# Altium footprint library Capacitor.PcbLib: 60 footprints (part 3 of 4)
Each footprint in its own frame and in the unit in brackets; x right, y up, seen from the top. Pads: shape width x height; smd on the part's side, far side on the other; paste and mask are expansions set on the pad; w line width, h text height; cw(c..) or ccw(c..) is an arc to the next point about the centre after c.
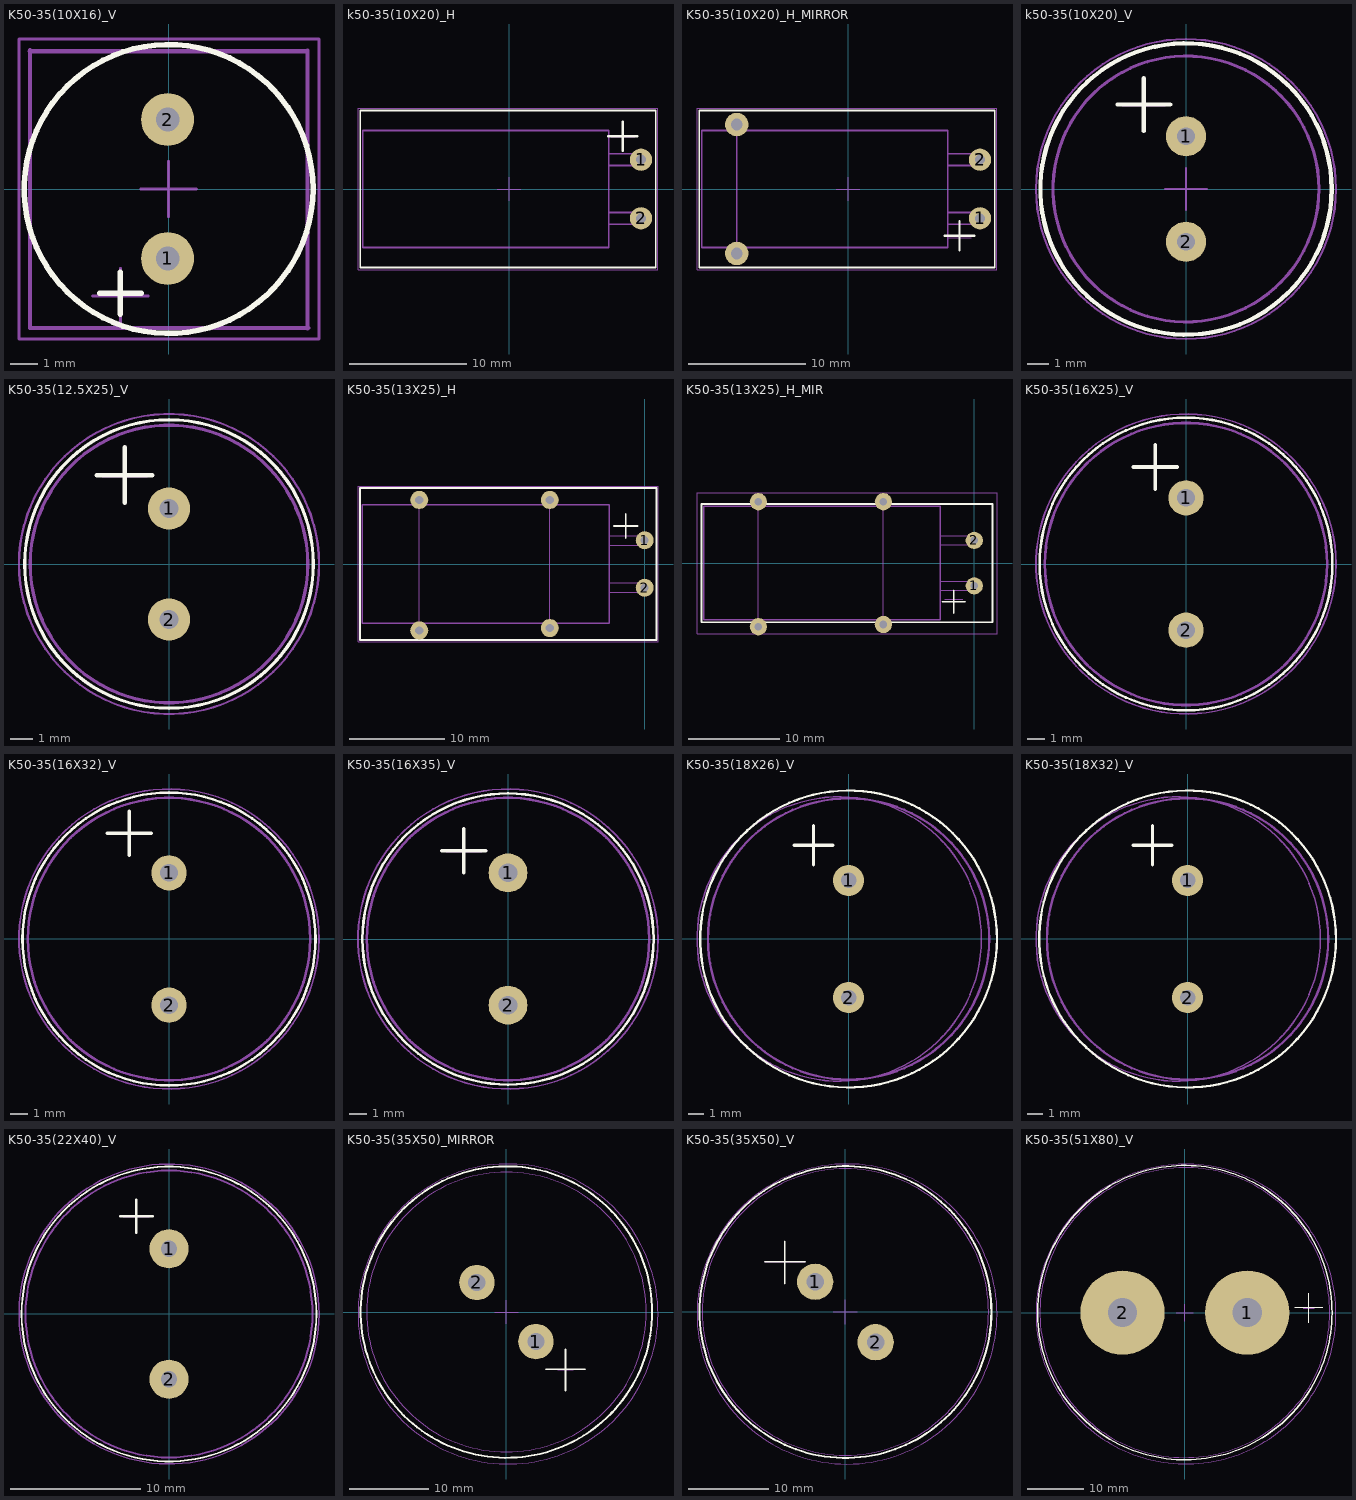
[diagram p2: the footprints below, top view; thin cyan lines are the x and y axes]

## K50-35(10X16)_V [mm]
pads (2):
  round 1.9 hole 0.85: 1(-0.037,-2.5)
  round 1.9 hole 0.85 mask+0.102: 2(-0.037,2.5)
Top Overlay:
  circle w0.2: c0,0 r5.2
  lines w0.2: -2.487,-3.75 -0.987,-3.75 ; -1.737,-4.5 -1.737,-3
Mechanical 7:
  lines w0.1: -2.737,-3.85 -0.737,-3.85 ; -1.737,-4.85 -1.737,-2.85
  lines w0.15: -5.012,4.961 5,4.961 ; -4.987,5 -4.987,-5 5.025,-5 ; -0.037,-3 -0.037,-2 ; -0.037,2 -0.037,3 ; 5,-5.025 5,4.987
Mechanical 9:
  text ".Designator" at 5.9,0.3 h3
Mechanical 10:
  text ".Comment" at 5.9,-1.8 h2
Mechanical 15:
  lines w0.1: -1,0 1,0 ; 0,-1 0,1 ; -5.387,-5.4 5.413,-5.4 5.413,5.4 -5.387,5.4 -5.387,-5.4
3D body "User Library-Cap electro 10x16x5_0mm.step": height 17.53, standoff -2.74, extent -5.025,-5.025 5.025,5.026

## k50-35(10X20)_H [mm]
pads (2):
  round 1.9 hole 0.85 mask+0.102: 1(11.25,2.5)
  round 1.9 hole 0.85: 2(11.25,-2.5)
Top Overlay:
  lines w0.15: -12.7,-6.7 -12.7,6.7 12.5,6.7 12.5,-6.7 -12.7,-6.7
  lines w0.2: 8.45,4.5 10.95,4.5 ; 9.7,3.25 9.7,5.75
Mechanical 7:
  lines w0.1: 8.7,4.45 10.7,4.45 ; 9.7,3.45 9.7,5.45
  lines w0.15: 8.5,-3 11.25,-3 11.25,-2 8.5,-2 ; 8.5,2 11.25,2 11.25,3 8.5,3 ; -12.5,-5 8.5,-5 8.5,5 -12.5,5 -12.5,-5
Mechanical 9:
  text ".Designator" at 13.5,2.5 h3
Mechanical 10:
  text ".Comment" at 13.6,0 h2
Mechanical 15:
  lines w0.1: -1,0 1,0 ; 0,-1 0,1 ; -12.9,-6.9 12.7,-6.9 12.7,6.9 -12.9,6.9 -12.9,-6.9
3D body "User Library-Cap-EL(10x20-5).step": height 11, standoff 1, extent -12.452,-5.002 10.85,5

## K50-35(10X20)_H_MIRROR [mm]
pads (4):
  round 1.9 hole 0.85: 1(11.25,-2.5)
  round 1.9 hole 0.85 mask+0.102: 2(11.25,2.5)
  round 2 hole 1 mask+0.102: ""(-9.5,-5.5) ""(-9.5,5.5)
Top Overlay:
  lines w0.15: -12.7,-6.7 -12.7,6.7 12.5,6.7 12.5,-6.7 -12.7,-6.7
  lines w0.2: 8.25,-4 10.75,-4 ; 9.5,-5.25 9.5,-2.75
Mechanical 7:
  lines w0.1: 8.5,-4.15 10.5,-4.15 ; 9.5,-5.15 9.5,-3.15
  lines w0.15: -9.5,-5.5 -9.5,5.5 ; 8.5,-3 11.25,-3 11.25,-2 8.5,-2 ; 8.5,2 11.25,2 11.25,3 8.5,3 ; -12.5,-5 8.5,-5 8.5,5 -12.5,5 -12.5,-5
Mechanical 9:
  text ".Designator" at 13.25,1.5 h3
Mechanical 10:
  text ".Comment" at 13.5,-0.6 h2
Mechanical 15:
  lines w0.1: -1,0 1,0 ; 0,-1 0,1 ; -12.9,-6.9 12.7,-6.9 12.7,6.9 -12.9,6.9 -12.9,-6.9
3D body "User Library-Cap-EL(10x20-5).step": height 11, standoff 1, extent -12.452,-5.002 10.85,5

## k50-35(10X20)_V [mm]
pads (2):
  round 1.9 hole 0.85 mask+0.102: 1(0,2.5)
  round 1.9 hole 0.85: 2(0,-2.5)
Top Overlay:
  circle w0.2: c0,0 r6.901
  lines w0.2: -3.25,4 -0.75,4 ; -2,2.75 -2,5.25
Mechanical 7:
  circle w0.15: c0,0 r6.3
  lines w0.1: -3,3.95 -1,3.95 ; -2,2.95 -2,4.95
Mechanical 9:
  text ".Designator" at -5,-9.75 h3
Mechanical 10:
  text ".Comment" at -4.6,-11.6 h2
Mechanical 11:
  lines w0.15: -3,4 -1,4 ; -2,3 -2,5
Mechanical 15:
  circle w0.1: c0,0 r7.106
  lines w0.1: -1,0 1,0 ; 0,-1 0,1
3D body "User Library-Cap-EL(12_5x25-5).step": height 25.1, standoff -3.2, extent -6.249,-6.252 6.25,6.25

## K50-35(12.5X25)_V [mm]
pads (2):
  round 1.9 hole 0.85 mask+0.102: 1(0,2.5)
  round 1.9 hole 0.85: 2(0,-2.5)
Top Overlay:
  circle w0.15: c0,0 r6.5
  lines w0.2: -3.25,4 -0.75,4 ; -2,2.75 -2,5.25
Mechanical 7:
  circle w0.15: c0,0 r6.25
  lines w0.1: -3,3.95 -1,3.95 ; -2,2.95 -2,4.95
  lines w0.15: -3.25,4 -0.75,4 ; -2,2.75 -2,5.25
Mechanical 9:
  text ".Designator" at -4.75,-8.75 h3
Mechanical 10:
  text ".Comment" at -4.8,-10.6 h2
Mechanical 15:
  circle w0.1: c0,0 r6.755
3D body "User Library-Cap-EL(12_5x25-5).step": height 25, standoff -3.3, extent -6.249,-6.25 6.25,6.252

## K50-35(13X25)_H [mm]
pads (6):
  round 1.9 hole 0.85 mask+0.102: 1(0,2.5) ""(-23.75,6.75) ""(-10,6.75)
  round 1.9 hole 0.85: 2(0,-2.5) ""(-23.75,-7) ""(-10,-6.75)
Top Overlay:
  lines w0.2: -3.25,4 -0.75,4 ; -2,2.75 -2,5.25 ; -30,-8 -30,8 1.25,8 1.25,-8 -30,-8
Mechanical 7:
  lines w0.1: -23.75,-6.25 -23.75,6.25 ; -10,-6.25 -10,6.25 ; -3.75,-3 0,-3 0,-2 -3.75,-2 ; -3.75,2 0,2 0,3 -3.75,3 ; -3,4.05 -1,4.05 ; -2,3.05 -2,5.05
  lines w0.15: -29.75,-6.25 -3.75,-6.25 -3.75,6.25 -29.75,6.25 -29.75,-6.25
Mechanical 9:
  text ".Designator" at 2.45,0.55 h3
Mechanical 10:
  text ".Comment" at 2.7,-1.6 h2
Mechanical 15:
  lines w0.1: -30.2,-8.2 1.4,-8.2 1.4,8.2 -30.2,8.2 -30.2,-8.2
3D body "User Library-Cap-EL(12_5x25-5).step": height 12.75, standoff 0.25, extent -29.752,-6.252 -1.45,6.25

## K50-35(13X25)_H_MIR [mm]
pads (6):
  round 1.9 hole 0.85: 1(0,-2.5) ""(-23.75,-7) ""(-10,-6.75)
  round 1.9 hole 0.85 mask+0.102: 2(0,2.5) ""(-23.75,6.75) ""(-10,6.75)
Top Overlay:
  lines w0.2: -3.5,-4.25 -1,-4.25 ; -2.25,-5.5 -2.25,-3 ; -30,-6.5 2,-6.5 2,6.5 -30,6.5 -30,-6.5
Mechanical 7:
  lines w0.1: -23.75,-6.25 -23.75,6.25 ; -10,-6.25 -10,6.25 ; -3.75,-3 0,-3 0,-2 -3.75,-2 ; -3.75,2 0,2 0,3 -3.75,3 ; -3.25,-4 -1.25,-4 ; -2.25,-5 -2.25,-3
  lines w0.15: -29.75,-6.25 -29.75,6.25 -3.75,6.25 -3.75,-6.25 -29.75,-6.25
Mechanical 9:
  text ".Designator" at 3.35,1.45 h3
Mechanical 10:
  text ".Comment" at 3.5,-0.5 h2
Mechanical 15:
  lines w0.1: -30.5,-7.75 -30.5,7.75 2.5,7.75 2.5,-7.75 -30.5,-7.75
3D body "User Library-Cap-EL(12_5x25-5).step": height 12.75, standoff 0.25, extent -29.752,-6.25 -1.45,6.252

## K50-35(16X25)_V [mm]
pads (2):
  round 2 hole 1 mask+0.102: 1(0,3.75)
  round 2 hole 1: 2(0,-3.75)
Top Overlay:
  circle w0.15: c0,0 r8.301
  lines w0.2: -3,5.5 -0.5,5.5 ; -1.75,4.25 -1.75,6.75
Mechanical 7:
  circle w0.15: c0,0 r8.002
  lines w0.1: -2.75,5.45 -0.75,5.45 ; -1.75,4.45 -1.75,6.45
Mechanical 9:
  text ".Designator" at -4.95,-10.75 h3
Mechanical 10:
  text ".Comment" at -4.9,-12.7 h2
Mechanical 15:
  circle w0.1: c0,0 r8.505
3D body "User Library-Cap electrolitic radial 16x25.STEP": height 25.8, standoff -0.7, extent -7.999,-7.997 7.998,7.997

## K50-35(16X32)_V [mm]
pads (2):
  round 2 hole 1 mask+0.102: 1(0,3.75)
  round 2 hole 1: 2(0,-3.75)
Top Overlay:
  circle w0.15: c0,0 r8.302
  lines w0.2: -3.5,6 -1,6 ; -2.25,4.75 -2.25,7.25
Mechanical 7:
  circle w0.15: c0,0 r8.002
  lines w0.1: -3.2,5.95 -1.2,5.95 ; -2.2,4.95 -2.2,6.95
Mechanical 9:
  text ".Designator" at -5.05,-10.75 h3
Mechanical 10:
  text ".Comment" at -5.1,-12.8 h2
Mechanical 15:
  circle w0.1: c0,0 r8.502
3D body "User Library-CAPAER_D160_L320_P075_W008X030.STEP": height 33.01, standoff -2, extent -8,-8.01 8,8

## K50-35(16X35)_V [mm]
pads (2):
  round 2.2 hole 1.05 mask+0.102: 1(0,3.75)
  round 2.2 hole 1.05: 2(0,-3.75)
Top Overlay:
  circle w0.15: c0,0 r8.25
  lines w0.2: -3.75,5 -1.25,5 ; -2.5,3.75 -2.5,6.25
Mechanical 7:
  circle w0.15: c0,0 r8
  lines w0.1: -3.5,4.95 -1.5,4.95 ; -2.5,3.95 -2.5,5.95
Mechanical 9:
  text ".Designator" at -4.55,-10.65 h3
Mechanical 10:
  text ".Comment" at -4.7,-12.5 h2
Mechanical 11:
  lines w0.15: -3.75,5 -1.25,5 ; -2.5,3.75 -2.5,6.25
Mechanical 15:
  circle w0.1: c0,0 r8.5
3D body "User Library-CAPAER_D160_L355_P075_W008X030.STEP": height 35.61, standoff -2.9, extent -8,-8.01 8,8

## K50-35(18X26)_V [mm]
pads (2):
  round 2 hole 1 mask+0.102: 1(0,3.75)
  round 2 hole 1: 2(0,-3.75)
Top Overlay:
  circle w0.15: c0,0 r9.5
  lines w0.2: -3.5,6 -1,6 ; -2.25,4.75 -2.25,7.25
Mechanical 7:
  circle w0.15: c0,0 r9
  lines w0.1: -3.2,5.95 -1.2,5.95 ; -2.2,4.95 -2.2,6.95
Mechanical 9:
  text ".Designator" at -5.05,-10.75 h3
Mechanical 10:
  text ".Comment" at -5.1,-12.8 h2
Mechanical 15:
  lines w0.1: 8.502,0 ccw(c-0.599,0) 8.502,0
3D body "User Library-Cap-EL(18x26-7_5)T.step": height 27, standoff -3, extent -8.999,-9.002 8.999,9

## K50-35(18X32)_V [mm]
pads (2):
  round 2 hole 1 mask+0.102: 1(0,3.75)
  round 2 hole 1: 2(0,-3.75)
Top Overlay:
  circle w0.15: c0,0 r9.5
  lines w0.2: -3.5,6 -1,6 ; -2.25,4.75 -2.25,7.25
Mechanical 7:
  circle w0.15: c0,0 r9
  lines w0.1: -3.2,5.95 -1.2,5.95 ; -2.2,4.95 -2.2,6.95
Mechanical 9:
  text ".Designator" at -5.05,-10.75 h3
Mechanical 10:
  text ".Comment" at -5.1,-12.8 h2
Mechanical 15:
  lines w0.1: 8.502,0 ccw(c-0.599,0) 8.502,0
3D body "User Library-CAPAER_D180_L325_P075_W008X030.STEP": height 33.51, standoff -2, extent -9,-9.01 9,9

## K50-35(22X40)_V [mm]
pads (2):
  round 3 hole 1.25 mask+0.102: 1(0,5)
  round 3 hole 1.25: 2(0,-5)
Top Overlay:
  circle w0.15: c0,0 r11.307
  lines w0.2: -3.75,7.5 -1.25,7.5 ; -2.5,6.25 -2.5,8.75
Mechanical 7:
  circle w0.15: c0,0 r11.004
  lines w0.1: -3.5,7.45 -1.5,7.45 ; -2.5,6.45 -2.5,8.45
Mechanical 9:
  text ".Designator" at -5.35,-14.05 h3
Mechanical 10:
  text ".Comment" at -5.6,-15.9 h2
Mechanical 15:
  circle w0.1: c0,0 r11.504
3D body "User Library-Cap electrolitic radial 22x40.STEP": height 40.8, standoff -0.7, extent -10.999,-10.996 10.998,10.996

## K50-35(35X50)_MIRROR [mm]
pads (2):
  round 4.5 hole 2.2: 1(3.75,-3.75)
  round 4.5 hole 2.2 mask+0.102: 2(-3.75,3.75)
Top Overlay:
  circle w0.254: c0,0 r18.5
  lines w0.2: 5,-7.25 10,-7.25 ; 7.5,-10 7.5,-4.75
Mechanical 7:
  circle w0.15: c0,0 r17.757
  lines w0.1: 6.5,-7.3 8.5,-7.3 ; 7.5,-8.3 7.5,-6.3
Mechanical 15:
  circle w0.1: c0.2,-0.25 r19.041
  lines w0.1: -1.5,0 1.5,0 ; 0,-1.5 0,1.5
3D body "User Library-Capacitor_SnapIn_35x50mm.step": height 51.66, standoff -4.52, extent -17.78,-17.78 17.78,17.78

## K50-35(35X50)_V [mm]
pads (2):
  round 4.5 hole 2.2 mask+0.102: 1(-3.75,3.75)
  round 4.5 hole 2.2: 2(3.75,-3.75)
Top Overlay:
  circle w0.254: c0,0 r18.1
  lines w0.2: -10,6.25 -5,6.25 ; -7.5,3.5 -7.5,8.75
Mechanical 7:
  circle w0.15: c0,0 r17.757
  lines w0.1: -8.5,6.2 -6.5,6.2 ; -7.5,5.2 -7.5,7.2
Mechanical 9:
  text ".Designator" at -5.6,-22.95 h3
Mechanical 10:
  text ".Comment" at -5.35,-24.9 h2
Mechanical 11:
  lines w0.15: -10,6.25 -5,6.25 ; -7.5,3.5 -7.5,8.75
Mechanical 15:
  circle w0.1: c0.2,-0.25 r18.6
  lines w0.1: -1.5,0 1.5,0 ; 0,-1.5 0,1.5
3D body "User Library-Capacitor_SnapIn_35x50mm.step": height 51.66, standoff -4.52, extent -17.78,-17.78 17.78,17.78

## K50-35(51X80)_V [mm]
pads (2):
  round 15 hole 5.2: 1(11.1,0)
  round 15 hole 5.2 mask+0.102: 2(-11.1,0)
Top Overlay:
  circle w0.254: c0,0 r26.2
  lines w0.2: 19.55,0.925 24.55,0.925 ; 22.05,-1.825 22.05,3.425
Mechanical 7:
  lines w0.1: 21.05,0.75 23.05,0.75 ; 22.05,-0.25 22.05,1.75
  lines w0.15: 25.8,0 cw(c0,0) 25.8,0.032
Mechanical 9:
  text ".Designator" at -3.7,-29.15 h3
Mechanical 10:
  text ".Comment" at -2.9,-31.1 h2
Mechanical 15:
  circle w0.1: c0.2,-0.25 r26.7
  lines w0.1: -1.5,0 1.5,0 ; 0,-1.5 0,1.5
3D body "ECAP (Ê50-35), 1000 ìêô.STEP": height 87.2, standoff 0, extent -25.8,-25.8 25.8,25.8